# Altium schematic symbol library SamacSys.SchLib: 131 symbols (part 1 of 2)
Pins are listed as number, name and electrical type; pins without a type are passive.

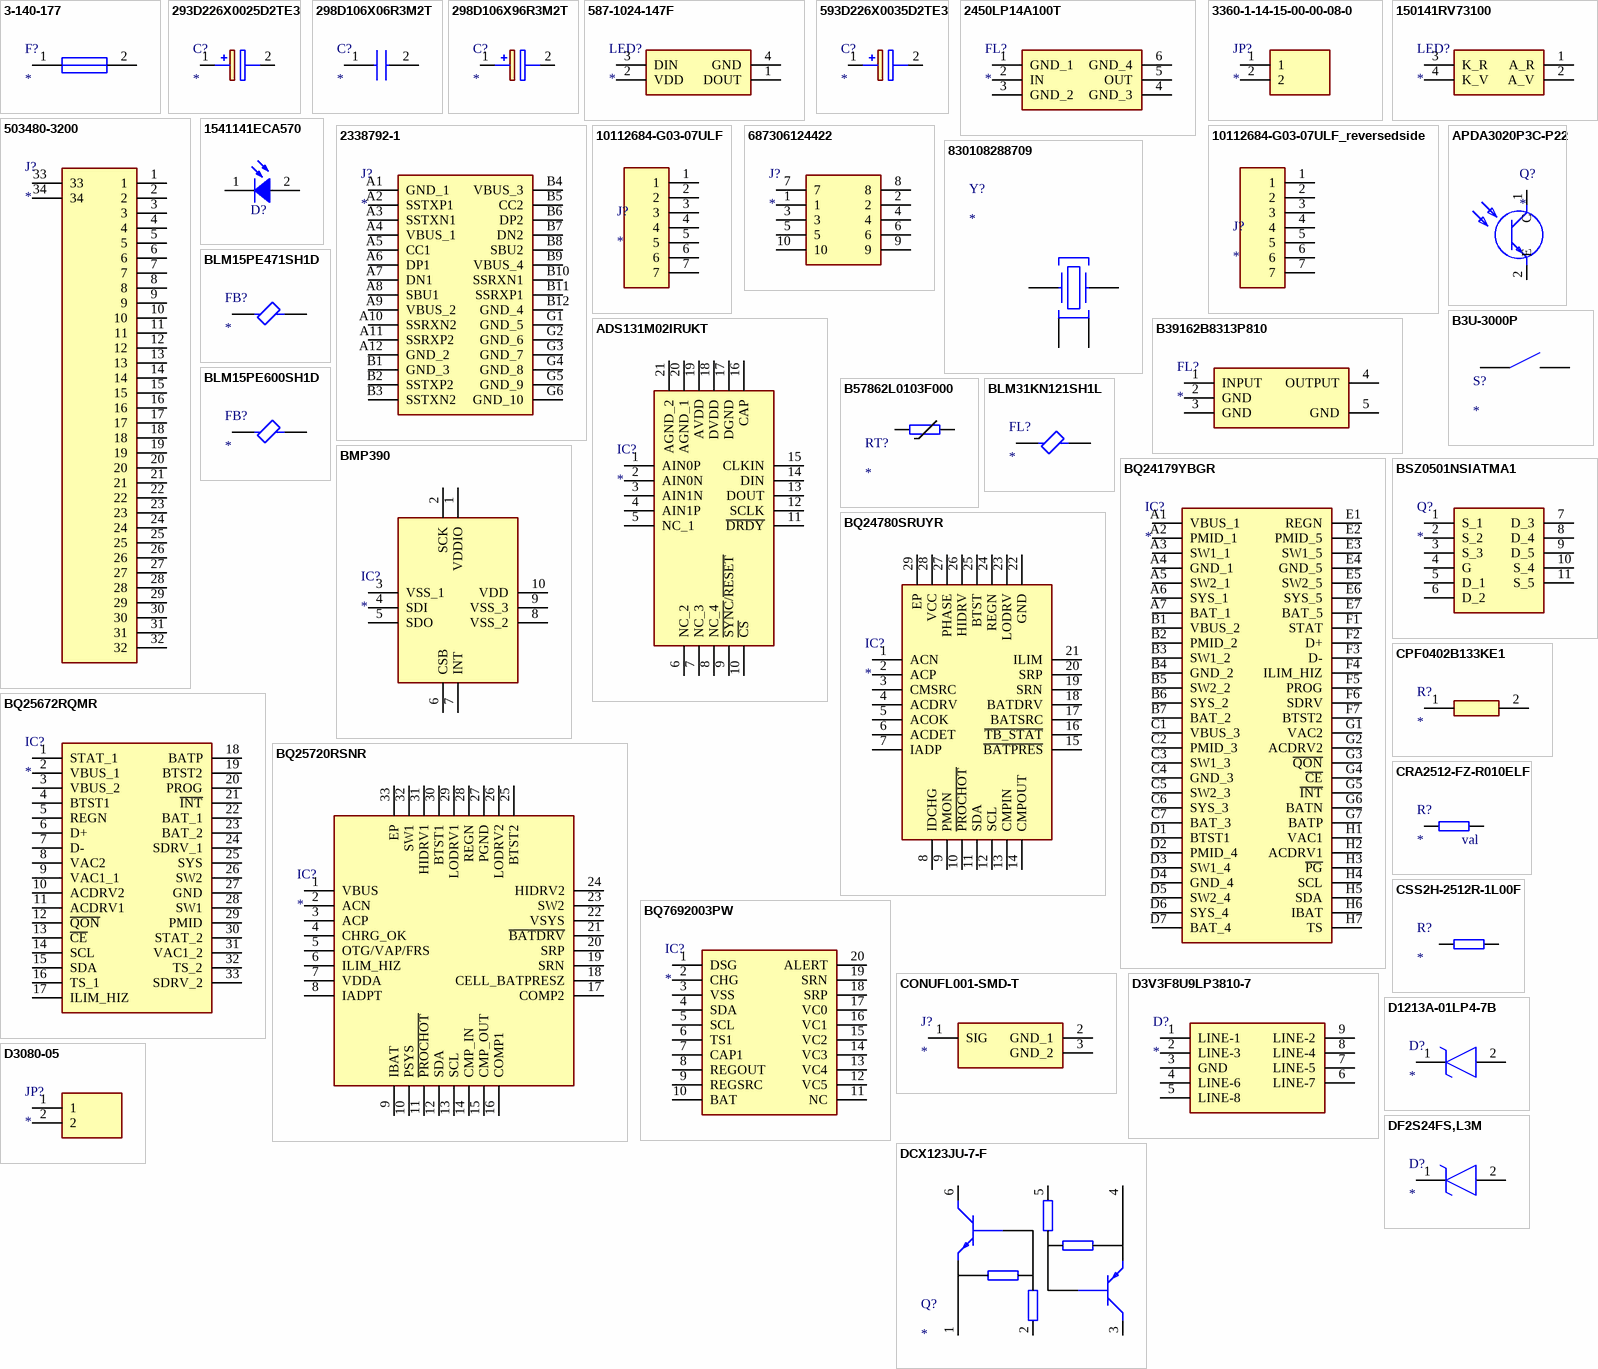
[diagram p0: symbols 3-140-177 to DF2S24FS,L3M]

## 3-140-177
designator F?
Fuse; Manufacturer_Name: SCHURTER; Manufacturer_Part_Number: 3-140-177; Datasheet Link: https://www.schurter.com/en/datasheet/typ_UHS.pdf; Height: 4.85mm; Mouser Part Number: 693-3-140-177; Mouser Price/Stock: https://www.mouser.co.uk/ProductDetail/Schurter/3-140-177?qs=3Rah4i%252BhyCHL3c0yS6dOkg%3D%3D; Arrow Part Number: 3-140-177; Arrow Price/Stock: https://www.arrow.com/en/products/3-140-177/schurter?region=europe
footprint 3140177
pins: 1, 2

## 293D226X0025D2TE3
designator C?
Capacitor Polarised; Manufacturer_Name: Vishay; Manufacturer_Part_Number: 293D226X0025D2TE3; Datasheet Link: http://www.vishay.com/docs/40002/293d.pdf; Height: 3.1mm; Mouser Part Number: 74-293D226X0025D2TE3; Mouser Price/Stock: https://www.mouser.co.uk/ProductDetail/Vishay-Sprague/293D226X0025D2TE3?qs=27QRfRkF2isTHSjSebANCw%3D%3D
footprint CAPPM7343X310N
pins: 1 +, 2 -

## 298D106X06R3M2T
designator C?
Capacitor; Manufacturer_Name: Vishay; Manufacturer_Part_Number: 298D106X06R3M2T; Datasheet Link: https://www.arrow.com/en/products/298d106x06r3m2t/vishay; Height: 0.6mm; Mouser Part Number: 71-298D106X06R3M2T; Mouser Price/Stock: https://www.mouser.co.uk/ProductDetail/Vishay/298D106X06R3M2T?qs=u8huD7HxK6amVvZnhRlfPA%3D%3D; Arrow Part Number: 298D106X06R3M2T; Arrow Price/Stock: https://www.arrow.com/en/products/298d106x06r3m2t/vishay
footprint CAPC1005X60N
pins: 1, 2

## 298D106X96R3M2T
designator C?
Capacitor Polarised; Manufacturer_Name: Vishay; Manufacturer_Part_Number: 298D106X96R3M2T; Datasheet Link: https://www.vishay.com/docs/40065/298d298w.pdf; Height: 0.9mm; Mouser Part Number: 74-298D106X96R3M2T; Mouser Price/Stock: https://www.mouser.co.uk/ProductDetail/Vishay/298D106X96R3M2T?qs=u8huD7HxK6YSei%252BhrggeyA%3D%3D; Arrow Part Number: 298D106X96R3M2T; Arrow Price/Stock: https://www.arrow.com/en/products/298d106x96r3m2t/vishay?region=nac
footprint CAPPC1608X90N
pins: 1 +, 2 -

## 587-1024-147F
designator LED?
LED; Manufacturer_Name: Dialight; Manufacturer_Part_Number: 587-1024-147F; Datasheet Link: https://s3-us-west-2.amazonaws.com/catsy.557/Dialight_datasheet_587-1024-147F_Addressable_RGB.pdf; Height: 0.9mm
footprint 5871024147F
pins: 1 DOUT, 2 VDD, 3 DIN, 4 GND

## 593D226X0035D2TE3
designator C?
Capacitor Polarised; Manufacturer_Name: Vishay; Manufacturer_Part_Number: 593D226X0035D2TE3; Datasheet Link: http://www.vishay.com/doc?40005; Height: 3.1mm; Arrow Part Number: 593D226X0035D2TE3; Arrow Price/Stock: https://www.arrow.com/en/products/593d226x0035d2te3/vishay
footprint CAPPM7343X310N
pins: 1 +, 2 -

## 2450LP14A100T
designator FL?
Filter; Manufacturer_Name: JOHANSON TECHNOLOGY; Manufacturer_Part_Number: 2450LP14A100T; Datasheet Link: https://componentsearchengine.com/Datasheets/1/2450LP14A100T.pdf; Height: 0.7mm; Arrow Part Number: 2450LP14A100T; Arrow Price/Stock: https://www.arrow.com/en/products/2450lp14a100t/johanson-dielectrics?region=nac
footprint 2450LP14A100T
pins: 1 GND_1, 2 IN, 3 GND_2, 4 GND_3, 5 OUT, 6 GND_4

## 3360-1-14-15-00-00-08-0
designator JP?
Link (Jumper); Manufacturer_Name: Mill-Max; Manufacturer_Part_Number: 3360-1-14-15-00-00-08-0; Datasheet Link: https://www.mill-max.com/products/printed-circuit-board-pcb-pin/jumper-pin/3360/3360-1-14-15-00-00-08-0?s_term=3360-1-14-15-00-00-08-0&s_type=Quick/Product/Part%20Number%20Search; Height: 0.635mm; Mouser Part Number: 575-3360114150000; Mouser Price/Stock: https://www.mouser.co.uk/ProductDetail/Mill-Max/3360-1-14-15-00-00-08-0?qs=1wcGhl1mtLN3gslvUvPk%252Bw%3D%3D; Arrow Part Number: 3360-1-14-15-00-00-08-0; Arrow Price/Stock: https://www.arrow.com/en/products/3360-1-14-15-00-00-08-0/mill-max
footprint 3360114150000080
pins: 1, 2

## 150141RV73100
designator LED?
LED (Multiple); Manufacturer_Name: Wurth Elektronik; Manufacturer_Part_Number: 150141RV73100; Datasheet Link: https://www.we-online.com/components/products/datasheet/150141RV73100.pdf; Height: 2.1mm; Mouser Part Number: 710-150141RV73100; Mouser Price/Stock: https://www.mouser.co.uk/ProductDetail/Wurth-Elektronik/150141RV73100?qs=LlUlMxKIyB1w9QlMugtMLA%3D%3D
footprint 150141RV73100
pins: 1 A_R, 2 A_V, 3 K_R, 4 K_V

## 503480-3200
designator J?
Connector; Manufacturer_Name: Molex; Manufacturer_Part_Number: 503480-3200; Datasheet Link: https://www.molex.com/pdm_docs/sd/5034803200_sd.pdf; Height: 1mm; Mouser Part Number: 538-503480-3200; Mouser Price/Stock: https://www.mouser.co.uk/ProductDetail/Molex/503480-3200?qs=6kT3pPPHxnXy4DNjAJz%252BBA%3D%3D
footprint 5034803200
pins: 1, 2, 3, 4, 5, 6, 7, 8, 9, 10, 11, 12, 13, 14, 15, 16, 17, 18, 19, 20, 21, 22, 23, 24, 25, 26, 27, 28, 29, 30, 31, 32, 33, 34

## 1541141ECA570
designator D?  (value not drawn)
WL-SDSB SMT Photodiode Sideview Black, size 1104, 700-1100nm, 2.5µA, 150°; Manufacturer: Wurth Elektronik; Case/Size Code: 1104; Dark Current Max: 10nA; Range of Spectral Bandwidth Min: 700nm; Range of Spectral Bandwidth Max: 1100nm; Wavelength of Peak Sensitivity: 940nm; ComponentLink1Description: Website Link; ComponentLink1URL: https://www.we-online.com/redexpert/article/1541141ECA570?ad; ComponentLink2Description: Datasheet Link; ComponentLink2URL: https://www.we-online.com/redexpert/spec/1541141ECA570?ad; Manufacturer Part Number: 1541141ECA570; Category: Photodiodes; Match Code: WL-SDSB; Mount: Surface Mount; Operating Temperature Max: 85°C; Operating Temperature Min: -40°C; Packaging: Tape and Reel; Length: 3mm; Width: 2.02mm; Height: 1mm; Photo Current: 2.5µA; Viewing Angle: 150°
footprint WL-SDSB_1104 (SMT Photodiode Sideview Black, body 3x2.02mm)
pins: 1 K, 2 A

## 2338792-1
designator J?
Connector; Manufacturer_Name: TE Connectivity; Manufacturer_Part_Number: 2338792-1; Datasheet Link: https://www.te.com/commerce/DocumentDelivery/DDEController?Action=srchrtrv&DocNm=2338792&DocType=Customer+Drawing&DocLang=English&DocFormat=pdf&PartCntxt=2338792-1.html; Height: 3.55mm; Mouser Part Number: 571-2338792-1; Mouser Price/Stock: https://www.mouser.co.uk/ProductDetail/TE-Connectivity/2338792-1?qs=P1JMDcb91o48A7J0Lklrxw%3D%3D; Arrow Part Number: 2338792-1; Arrow Price/Stock: https://www.arrow.com/en/products/2338792-1/te-connectivity?region=nac
footprint 23387921
pins: A1 GND_1, A2 SSTXP1, A3 SSTXN1, A4 VBUS_1, A5 CC1, A6 DP1, A7 DN1, A8 SBU1, A9 VBUS_2, A10 SSRXN2, A11 SSRXP2, A12 GND_2, B1 GND_3, B2 SSTXP2, B3 SSTXN2, B4 VBUS_3, B5 CC2, B6 DP2, B7 DN2, B8 SBU2, B9 VBUS_4, B10 SSRXN1, B11 SSRXP1, B12 GND_4, G1 GND_5, G2 GND_6, G3 GND_7, G4 GND_8, G5 GND_9, G6 GND_10

## 10112684-G03-07ULF
designator J?
footprint PCBComponent_1
pins: 1, 2, 3, 4, 5, 6, 7

## 10112684-G03-07ULF_reversedside
designator J?
footprint FC_conn
pins: 1, 2, 3, 4, 5, 6, 7

## 687306124422
designator J?
Connector; Manufacturer_Name: Wurth Elektronik; Manufacturer_Part_Number: 687306124422; Datasheet Link: https://katalog.we-online.de/em/datasheet/6873xx124422.pdf; Height: 4.3mm; Mouser Part Number: 710-687306124422; Mouser Price/Stock: https://www.mouser.co.uk/ProductDetail/Wurth-Elektronik/687306124422?qs=qR1qlUC5%2FYSdKVz1sUuf7Q%3D%3D
footprint 687306124422
pins: 1, 2, 3, 4, 5, 6, 7, 8, 9, 10

## 830108288709
designator Y?
Crystal or Oscillator; Manufacturer_Name: Wurth Elektronik; Manufacturer_Part_Number: 830108288709; Datasheet Link: https://www.we-online.com/catalog/datasheet/830108340709.pdf; Height: 0.5mm
footprint 830108288709
pins: 1 CRYSTAL_1, 2 GND_1, 3 CRYSTAL_2, 4 GND_2

## ADS131M02IRUKT
designator IC?
Integrated Circuit; Manufacturer_Name: Texas Instruments; Manufacturer_Part_Number: ADS131M02IRUKT; Description: 2-Channel Dual ADC Delta-Sigma 32ksps 24-bit Serial T/R; Datasheet Link: https://www.ti.com/lit/ds/symlink/ads131m02.pdf?ts=1615779027560; Height: 0.8mm; Mouser Part Number: 595-ADS131M02IRUKT; Mouser Price/Stock: https://www.mouser.co.uk/ProductDetail/Texas-Instruments/ADS131M02IRUKT?qs=DRkmTr78QAQxT9LmqFBUww%3D%3D; Arrow Part Number: ADS131M02IRUKT; Arrow Price/Stock: https://www.arrow.com/en/products/ads131m02irukt/texas-instruments?region=nac
footprint QFN40P300X300X80-21N-D
pins: 1 AIN0P, 2 AIN0N, 3 AIN1N, 4 AIN1P, 5 NC_1, 6 NC_2, 7 NC_3, 8 NC_4, 9 ~{SYNC}/~{RESET}, 10 ~{CS}, 11 ~{DRDY}, 12 SCLK, 13 DOUT, 14 DIN, 15 CLKIN, 16 CAP, 17 DGND, 18 DVDD, 19 AVDD, 20 AGND_1, 21 AGND_2

## APDA3020P3C-P22
designator Q?
Phototransistor; Manufacturer_Name: Kingbright; Manufacturer_Part_Number: APDA3020P3C-P22; Datasheet Link: https://www.kingbrightusa.com/images/catalog/SPEC/APDA3020P3C-P22.pdf; Height: 2.2mm
footprint APDA3020P3CP22
pins: 1 C, 2 E

## B3U-3000P
designator S?
Switch; Manufacturer_Name: Omron Electronics; Manufacturer_Part_Number: B3U-3000P; Datasheet Link: http://omronfs.omron.com/en_US/ecb/products/pdf/en-b3u.pdf; Mouser Part Number: 653-B3U-3000P; Mouser Price/Stock: https://www.mouser.co.uk/ProductDetail/Omron-Electronics/B3U-3000P?qs=AO7BQMcsEu4un9I7hS23xg%3D%3D; Arrow Part Number: B3U-3000P; Arrow Price/Stock: https://www.arrow.com/en/products/b3u-3000p/omron?region=nac
footprint B3U-1000P
pins: 1, 2

## B39162B8313P810
designator FL?
Filter; Manufacturer_Name: RF360; Manufacturer_Part_Number: B39162B8313P810; Datasheet Link: https://4donline.ihs.com/images/VipMasterIC/IC/TDKC/TDKC-S-A0001073526/TDKC-S-A0001073105-1.pdf?hkey=52A5661711E402568146F3353EA87419; Height: 0.4mm; Mouser Part Number: N/A; Mouser Price/Stock: https://www.mouser.co.uk/ProductDetail/RF360/B39162B8313P810?qs=%2Fd%252BFzHvH4c20Rngavm5AuA%3D%3D
footprint B39162B8313P810
pins: 1 INPUT, 2 GND, 3 GND, 4 OUTPUT, 5 GND

## B57862L0103F000
designator RT?
Thermistor; Manufacturer_Name: TDK; Manufacturer_Part_Number: B57862L0103F000; Datasheet Link: https://product.tdk.com/system/files/dam/doc/product/sensor/ntc/ntc_element/data_sheet/50/db/ntc/ntc_mini_sensors_l862.pdf; Height: 6.5mm; Mouser Part Number: 871-B57862L0103F000; Mouser Price/Stock: https://www.mouser.co.uk/ProductDetail/EPCOS-TDK/B57862L0103F000?qs=ZcfC38r4PovcwIqh7%252BPHpQ%3D%3D
footprint B57862L0102F000
pins: 1, 2

## BLM15PE471SH1D
designator FB?
Ferrite Bead; Manufacturer_Name: Murata Electronics; Manufacturer_Part_Number: BLM15PE471SH1D; Datasheet Link: https://www.murata.com/en-global/products/productdetail.aspx?cate=luNoiseSupprFilteChipFerriBead&partno=BLM15PE471SH1%23; Height: 0.55mm; Mouser Part Number: 81-BLM15PE471SH1D; Mouser Price/Stock: https://www.mouser.co.uk/ProductDetail/Murata-Electronics/BLM15PE471SH1D?qs=DRkmTr78QATAY5qAVx1hGA%3D%3D
footprint NFZ15SG152SN10B
pins: 1, 2

## BLM15PE600SH1D
designator FB?
Ferrite Bead; Manufacturer_Name: Murata Electronics; Manufacturer_Part_Number: BLM15PE600SH1D; Datasheet Link: https://www.murata.com/en-global/products/productdetail.aspx?cate=luNoiseSupprFilteChipFerriBead&partno=BLM15PE600SH1%23; Height: 0.55mm; Mouser Part Number: 81-BLM15PE600SH1D; Mouser Price/Stock: https://www.mouser.co.uk/ProductDetail/Murata-Electronics/BLM15PE600SH1D?qs=DRkmTr78QATf%2FmEselssqw%3D%3D
footprint NFZ15SG152SN10B
pins: 1, 2

## BLM31KN121SH1L
designator FL?
Filter; Manufacturer_Name: Murata Electronics; Manufacturer_Part_Number: BLM31KN121SH1L; Datasheet Link: https://www.murata.com/en-us/products/productdetail?partno=BLM31KN121SH1%23; Height: 1.8mm; Mouser Part Number: 81-BLM31KN121SH1L; Mouser Price/Stock: https://www.mouser.co.uk/ProductDetail/Murata-Electronics/BLM31KN121SH1L?qs=EU6FO9ffTweO7hwG4O0usQ%3D%3D; Arrow Part Number: BLM31KN121SH1L; Arrow Price/Stock: https://www.arrow.com/en/products/blm31kn121sh1l/murata-manufacturing?region=nac
footprint BLM31KN102BH1L
pins: 1, 2

## BMP390
designator IC?
Integrated Circuit; Manufacturer_Name: BOSCH; Manufacturer_Part_Number: BMP390; Datasheet Link: https://www.bosch-sensortec.com/media/boschsensortec/downloads/datasheets/bst-bmp390-ds002.pdf; Height: 0.8mm; Mouser Part Number: 262-BMP390; Mouser Price/Stock: https://www.mouser.co.uk/ProductDetail/Bosch-Sensortec/BMP390?qs=QNEnbhJQKvYQVfvRMgo2YA%3D%3D; Arrow Part Number: BMP390; Arrow Price/Stock: https://www.arrow.com/en/products/bmp390/bosch?region=nac
footprint BMP390
pins: 1 VDDIO, 2 SCK, 3 VSS_1, 4 SDI, 5 SDO, 6 CSB, 7 INT, 8 VSS_2, 9 VSS_3, 10 VDD

## BQ24179YBGR
designator IC?
Integrated Circuit; Manufacturer_Name: Texas Instruments; Manufacturer_Part_Number: BQ24179YBGR; Datasheet Link: https://www.ti.com/lit/ds/symlink/bq24179.pdf?ts=1620434088502&ref_url=https%253A%252F%252Fwww.ti.com%252Fproduct%252FBQ24179; Height: 0.5mm; Mouser Part Number: 595-BQ24179YBGR; Mouser Price/Stock: https://www.mouser.co.uk/ProductDetail/Texas-Instruments/BQ24179YBGR?qs=iLbezkQI%252Bsjk7FiJgAMAJg%3D%3D
footprint BGA56C40P7X8_286X328X50
pins: A1 VBUS_1, A2 PMID_1, A3 SW1_1, A4 GND_1, A5 SW2_1, A6 SYS_1, A7 BAT_1, B1 VBUS_2, B2 PMID_2, B3 SW1_2, B4 GND_2, B5 SW2_2, B6 SYS_2, B7 BAT_2, C1 VBUS_3, C2 PMID_3, C3 SW1_3, C4 GND_3, C5 SW2_3, C6 SYS_3, C7 BAT_3, D1 BTST1, D2 PMID_4, D3 SW1_4, D4 GND_4, D5 SW2_4, D6 SYS_4, D7 BAT_4, E1 REGN, E2 PMID_5, E3 SW1_5, E4 GND_5, E5 SW2_5, E6 SYS_5, E7 BAT_5, F1 STAT, F2 D+, F3 D-, F4 ILIM_HIZ, F5 PROG, F6 SDRV, F7 BTST2, G1 VAC2, G2 ACDRV2, G3 ~{QON}, G4 ~{CE}, G5 ~{INT}, G6 BATN, G7 BATP, H1 VAC1, H2 ACDRV1, H3 ~{PG}, H4 SCL, H5 SDA, H6 IBAT, H7 TS

## BQ24780SRUYR
designator IC?
Integrated Circuit; Manufacturer_Name: Texas Instruments; Manufacturer_Part_Number: BQ24780SRUYR; Datasheet Link: http://www.ti.com/lit/ds/symlink/bq24780s.pdf; Height: 0.8mm; Mouser Part Number: 595-BQ24780SRUYR; Mouser Price/Stock: https://www.mouser.co.uk/ProductDetail/Texas-Instruments/BQ24780SRUYR?qs=UfUFg%2FkmHHGvhuNvLnK4Wg%3D%3D; Arrow Part Number: BQ24780SRUYR; Arrow Price/Stock: https://www.arrow.com/en/products/bq24780sruyr/texas-instruments
footprint QFN40P400X400X80-29N-D
pins: 1 ACN, 2 ACP, 3 CMSRC, 4 ACDRV, 5 ACOK, 6 ACDET, 7 IADP, 8 IDCHG, 9 PMON, 10 ~{PROCHOT}, 11 SDA, 12 SCL, 13 CMPIN, 14 CMPOUT, 15 ~{BATPRES}, 16 ~{TB_STAT}, 17 BATSRC, 18 BATDRV, 19 SRN, 20 SRP, 21 ILIM, 22 GND, 23 LODRV, 24 REGN, 25 BTST, 26 HIDRV, 27 PHASE, 28 VCC, 29 EP

## BQ25672RQMR
designator IC?
Integrated Circuit; Manufacturer_Name: Texas Instruments; Manufacturer_Part_Number: BQ25672RQMR; Datasheet Link: https://www.ti.com/lit/ds/symlink/bq25672.pdf; Height: 1mm; Mouser Part Number: 595-BQ25672RQMR; Mouser Price/Stock: https://www.mouser.co.uk/ProductDetail/Texas-Instruments/BQ25672RQMR?qs=ljCeji4nMDntn8Xa8JfKdA%3D%3D; Arrow Part Number: BQ25672RQMR; Arrow Price/Stock: https://www.arrow.com/en/products/bq25672rqmr/texas-instruments?region=nac
footprint BQ25672RQMR
pins: 1 STAT_1, 2 VBUS_1, 3 VBUS_2, 4 BTST1, 5 REGN, 6 D+, 7 D-, 8 VAC2, 9 VAC1_1, 10 ACDRV2, 11 ACDRV1, 12 ~{QON}, 13 ~{CE}, 14 SCL, 15 SDA, 16 TS_1, 17 ILIM_HIZ, 18 BATP, 19 BTST2, 20 PROG, 21 ~{INT}, 22 BAT_1, 23 BAT_2, 24 SDRV_1, 25 SYS, 26 SW2, 27 GND, 28 SW1, 29 PMID, 30 STAT_2, 31 VAC1_2, 32 TS_2, 33 SDRV_2

## BQ25720RSNR
designator IC?
Integrated Circuit; Manufacturer_Name: Texas Instruments; Manufacturer_Part_Number: BQ25720RSNR; Datasheet Link: https://www.ti.com/lit/ds/symlink/bq25720.pdf?ts=1649085131820&ref_url=https%253A%252F%252Fwww.ti.com%252Fproduct%252FBQ25720; Height: 0.8mm; Mouser Part Number: 595-BQ25720RSNR; Mouser Price/Stock: https://www.mouser.co.uk/ProductDetail/Texas-Instruments/BQ25720RSNR?qs=ljCeji4nMDlwF8f%2Foae7aQ%3D%3D
footprint QFN40P400X400X80-33N-D
pins: 1 VBUS, 2 ACN, 3 ACP, 4 CHRG_OK, 5 OTG/VAP/FRS, 6 ILIM_HIZ, 7 VDDA, 8 IADPT, 9 IBAT, 10 PSYS, 11 ~{PROCHOT}, 12 SDA, 13 SCL, 14 CMP_IN, 15 CMP_OUT, 16 COMP1, 17 COMP2, 18 CELL_BATPRESZ, 19 SRN, 20 SRP, 21 ~{BATDRV}, 22 VSYS, 23 SW2, 24 HIDRV2, 25 BTST2, 26 LODRV2, 27 PGND, 28 REGN, 29 LODRV1, 30 BTST1, 31 HIDRV1, 32 SW1, 33 EP

## BQ7692003PW
designator IC?
Integrated Circuit; Manufacturer_Name: Texas Instruments; Manufacturer_Part_Number: BQ7692003PW; Datasheet Link: http://www.ti.com/lit/gpn/BQ76920; Height: 1.2mm; Mouser Part Number: 595-BQ7692003PW; Mouser Price/Stock: https://www.mouser.co.uk/ProductDetail/Texas-Instruments/BQ7692003PW?qs=%2Fd%252BFzHvH4c0Hx6X3GvdboA%3D%3D; Arrow Part Number: BQ7692003PW; Arrow Price/Stock: https://www.arrow.com/en/products/bq7692003pw/texas-instruments?utm_currency=USD&region=nac
footprint SOP65P640X120-20N
pins: 1 DSG, 2 CHG, 3 VSS, 4 SDA, 5 SCL, 6 TS1, 7 CAP1, 8 REGOUT, 9 REGSRC, 10 BAT, 11 NC, 12 VC5, 13 VC4, 14 VC3, 15 VC2, 16 VC1, 17 VC0, 18 SRP, 19 SRN, 20 ALERT

## BSZ0501NSIATMA1
designator Q?
MOSFET (N-Channel); Manufacturer_Name: Infineon; Manufacturer_Part_Number: BSZ0501NSIATMA1; Datasheet Link: https://www.infineon.com/dgdl/Infineon-BSZ0501NSI-DS-v02_00-EN.pdf?fileId=5546d4624cb7f111014cff6f9da822b8; Height: 1.1mm; Mouser Part Number: 726-BSZ0501NSIATMA1; Mouser Price/Stock: https://www.mouser.co.uk/ProductDetail/Infineon-Technologies/BSZ0501NSIATMA1?qs=0DP5yvOrqYmjIS%2FiZViMTg%3D%3D; Arrow Part Number: BSZ0501NSIATMA1; Arrow Price/Stock: https://www.arrow.com/en/products/bsz0501nsiatma1/infineon-technologies-ag
footprint BSZ0501NSIATMA1
pins: 1 S_1, 2 S_2, 3 S_3, 4 G, 5 D_1, 6 D_2, 7 D_3, 8 D_4, 9 D_5, 10 S_4, 11 S_5

## CONUFL001-SMD-T
designator J?
Connector; Manufacturer_Name: Linx Technologies; Manufacturer_Part_Number: CONUFL001-SMD-T; Datasheet Link: https://linxtechnologies.com/wp/product/mhf-rf-connectors/; Mouser Part Number: 712-CONUFL001-SMD-T; Mouser Price/Stock: https://www.mouser.co.uk/ProductDetail/Linx-Technologies/CONUFL001-SMD-T?qs=EU6FO9ffTwfRdkBeQTdJWQ%3D%3D
footprint CONUFL001-SMD
pins: 1 SIG, 2 GND_1, 3 GND_2

## CPF0402B133KE1
designator R?
Resistor; Manufacturer_Name: TE Connectivity; Manufacturer_Part_Number: CPF0402B133KE1; Datasheet Link: http://www.farnell.com/datasheets/1786775.pdf; Height: 0.35mm
footprint RESC1005X35N
pins: 1, 2

## CRA2512-FZ-R010ELF
designator R?  value val
Resistor; Manufacturer_Name: Bourns; Manufacturer_Part_Number: CRA2512-FZ-R010ELF; Datasheet Link: http://www.bourns.com/PDFs/CRA.pdf; Height: 0.9mm; Mouser Part Number: 652-CRA2512FZR010ELF; Mouser Price/Stock: https://www.mouser.co.uk/ProductDetail/Bourns/CRA2512-FZ-R010ELF?qs=WqWCsLCZBkoNPiv%2FXVnYvw%3D%3D; Arrow Part Number: CRA2512-FZ-R010ELF; Arrow Price/Stock: https://www.arrow.com/en/products/cra2512-fz-r010elf/bourns?region=europe
footprint RESC6434X90N
pins: 1, 2

## CSS2H-2512R-1L00F
designator R?
Resistor; Manufacturer_Name: Bourns; Manufacturer_Part_Number: CSS2H-2512R-1L00F; Datasheet Link: http://www.mouser.com/ds/2/54/ss2h-2512-935127.pdf; Height: 0.87mm; Mouser Part Number: 652-CSS2H2512R1L00F; Mouser Price/Stock: https://www.mouser.co.uk/ProductDetail/Bourns/CSS2H-2512R-1L00F?qs=Uem7cGQRk%252BpmYdIB5J3yJg%3D%3D; Arrow Part Number: CSS2H-2512R-1L00F; Arrow Price/Stock: https://www.arrow.com/en/products/css2h-2512r-1l00f/bourns?region=nac
footprint RESC6430X87N
pins: 1, 2

## D3V3F8U9LP3810-7
designator D?
TVS Diode (Uni-directional); Manufacturer_Name: Diodes Incorporated; Manufacturer_Part_Number: D3V3F8U9LP3810-7; Datasheet Link: https://www.diodes.com/datasheet/download/D3V3F8U9LP3810.pdf; Height: 0.55mm; Mouser Part Number: 621-D3V3F8U9LP3810-7; Mouser Price/Stock: https://www.mouser.co.uk/ProductDetail/Diodes-Incorporated/D3V3F8U9LP3810-7?qs=y6ZabgHbY%252BwmVTVbjzDMSw%3D%3D; Arrow Part Number: D3V3F8U9LP3810-7; Arrow Price/Stock: https://www.arrow.com/en/products/d3v3f8u9lp3810-7/diodes-incorporated
footprint D3V3F8U9LP38107
pins: 1 LINE-1, 2 LINE-3, 3 GND, 4 LINE-6, 5 LINE-8, 6 LINE-7, 7 LINE-5, 8 LINE-4, 9 LINE-2

## D1213A-01LP4-7B
designator D?
TVS Diode (Uni-directional); Manufacturer_Name: Diodes Incorporated; Manufacturer_Part_Number: D1213A-01LP4-7B; Datasheet Link: https://www.diodes.com/assets/Datasheets/D1213A-01LP4.pdf; Height: 0.4mm; Mouser Part Number: 621-D1213A-01LP4-7B; Mouser Price/Stock: https://www.mouser.co.uk/ProductDetail/Diodes-Incorporated/D1213A-01LP4-7B?qs=gfe7vQ8txpVKfG5NOSOvfA%3D%3D; Arrow Part Number: D1213A-01LP4-7B; Arrow Price/Stock: https://www.arrow.com/en/products/d1213a-01lp4-7b/diodes-incorporated?region=europe
footprint D1213A01LP47B
pins: 1 K, 2 A

## D3080-05
designator JP?
Link (Jumper); Manufacturer_Name: Harwin; Manufacturer_Part_Number: D3080-05; Datasheet Link: https://www.digikey.ph/en/products/detail/harwin-inc/D3080-05/3727839?msockid=39f1ec84d77b6f4428b7f904d6676eed; Height: 9mm; Mouser Part Number: 855-D3080-05; Mouser Price/Stock: https://www.mouser.co.uk/ProductDetail/Harwin/D3080-05?qs=Jph8NoUxIfVlP7WRRdmgOg%3D%3D
footprint D308005
pins: 1, 2

## DCX123JU-7-F
designator Q?
Transistor BJT PNP; Manufacturer_Name: Diodes Incorporated; Manufacturer_Part_Number: DCX123JU-7-F; Datasheet Link: https://www.diodes.com//assets/Datasheets/DCX_XXXX_U.pdf; Height: 1.1mm; Mouser Part Number: 621-DCX123JU-F; Mouser Price/Stock: https://www.mouser.co.uk/ProductDetail/Diodes-Incorporated/DCX123JU-7-F?qs=JodRp68BO%2F64PTlIzh5LEQ%3D%3D; Arrow Part Number: DCX123JU-7-F; Arrow Price/Stock: https://www.arrow.com/en/products/dcx123ju-7-f/diodes-incorporated
footprint SOT65P210X110-6N
pins: 1 E, 2 B, 3 C, 4 E, 5 B, 6 C

## DF2S24FS,L3M
designator D?
TVS Diode (Uni-directional); Manufacturer_Name: Toshiba; Manufacturer_Part_Number: DF2S24FS,L3M; Datasheet Link: https://www.mouser.com/datasheet/2/408/DF2S24FS_datasheet_en_20140718-708374.pdf; Height: 0.45mm; Mouser Part Number: 757-DF2S24FSL3M; Mouser Price/Stock: https://www.mouser.co.uk/ProductDetail/Toshiba/DF2S24FSL3M?qs=lhkzy8lC%252BSvG2umxl0FuEw%3D%3D; Arrow Part Number: DF2S24FS,L3M; Arrow Price/Stock: https://www.arrow.com/en/products/df2s24fsl3m/toshiba?region=nac
footprint SODFL1006X45N
pins: 1 K, 2 A

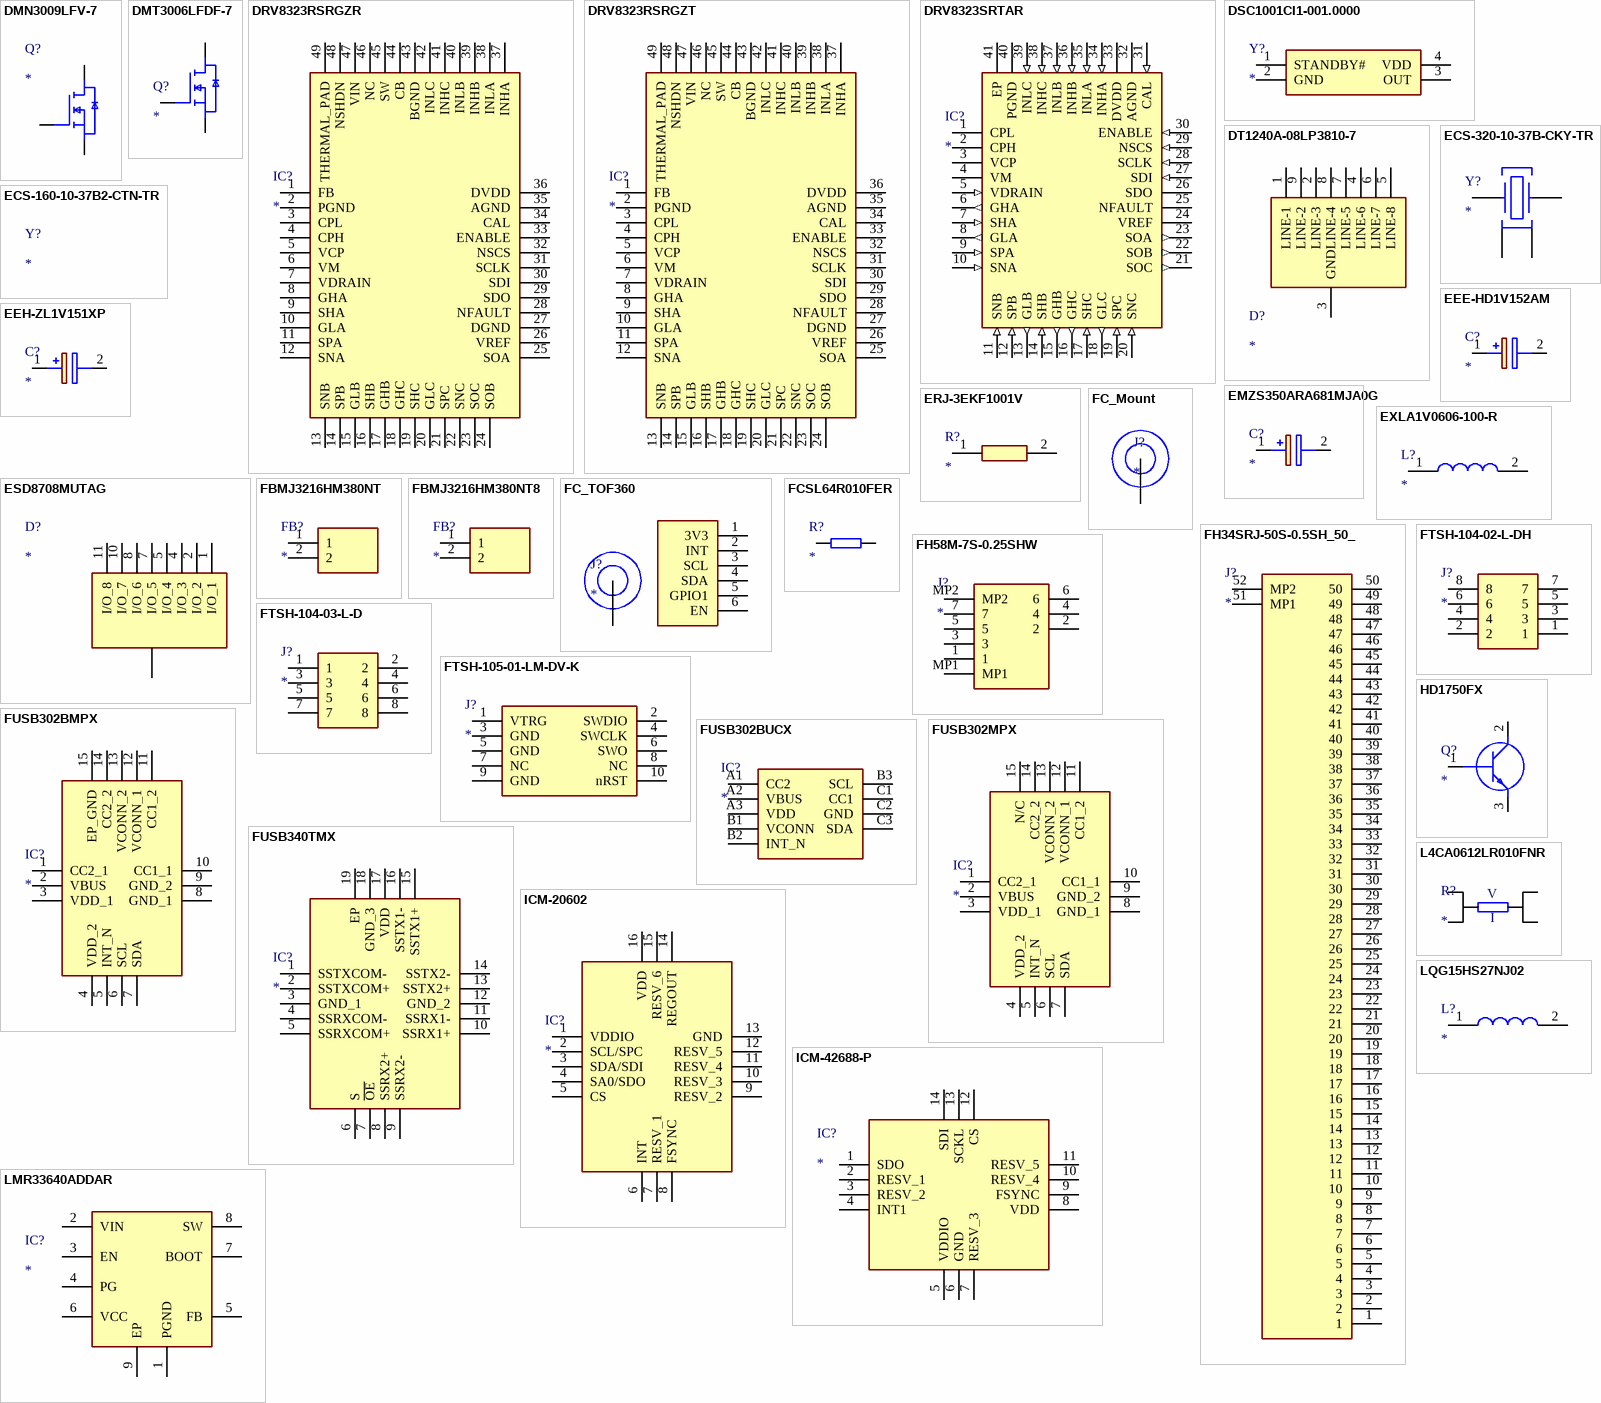
[diagram p1: symbols DMN3009LFV-7 to LQG15HS27NJ02]

## DMN3009LFV-7
designator Q?
MOSFET (N-Channel); Manufacturer_Name: Diodes Incorporated; Manufacturer_Part_Number: DMN3009LFV-7; Datasheet Link: https://www.diodes.com//assets/Datasheets/DMN3009LFV.pdf; Height: 0.8mm; Mouser Part Number: 621-DMN3009LFV-7; Mouser Price/Stock: https://www.mouser.co.uk/ProductDetail/Diodes-Incorporated/DMN3009LFV-7?qs=HXFqYaX1Q2znfWMsJdWO%2FA%3D%3D
footprint DMTH8008LFGQ7
pins: 1 S_1, 2 S_2, 3 S_3, 4 G, 5 D_1, 6 D_2, 7 D_3, 8 D_4, 9 D_5

## DMT3006LFDF-7
designator Q?
MOSFET (N-Channel); Manufacturer_Name: Diodes Incorporated; Manufacturer_Part_Number: DMT3006LFDF-7; Datasheet Link: https://www.arrow.com/en/products/dmt3006lfdf-7/diodes-incorporated; Height: 0.63mm; Mouser Part Number: 621-DMT3006LFDF-7; Mouser Price/Stock: https://www.mouser.co.uk/ProductDetail/Diodes-Incorporated/DMT3006LFDF-7?qs=4EhzHfbM1GhGS5nn3gf3wg%3D%3D; Arrow Part Number: DMT3006LFDF-7; Arrow Price/Stock: https://www.arrow.com/en/products/dmt3006lfdf-7/diodes-incorporated
footprint DMT3006LFDF7
pins: 1 D_1, 2 D_2, 3 G, 4 S_1, 5 D_3, 6 D_4, 7 D_5, 8 S_2

## DRV8323RSRGZR
designator IC?
Integrated Circuit; Manufacturer_Name: Texas Instruments; Manufacturer_Part_Number: DRV8323RSRGZR; Datasheet Link: http://www.ti.com/lit/gpn/drv8323r; Height: 1mm; Mouser Part Number: 595-DRV8323RSRGZR; Mouser Price/Stock: https://www.mouser.co.uk/ProductDetail/Texas-Instruments/DRV8323RSRGZR?qs=Mv7BduZupUiaPRwy%2F9hIqw%3D%3D; Arrow Part Number: DRV8323RSRGZR; Arrow Price/Stock: https://www.arrow.com/en/products/drv8323rsrgzr/texas-instruments?utm_currency=USD&region=nac
footprint QFN50P700X700X100-49N-D
pins: 1 FB, 2 PGND, 3 CPL, 4 CPH, 5 VCP, 6 VM, 7 VDRAIN, 8 GHA, 9 SHA, 10 GLA, 11 SPA, 12 SNA, 13 SNB, 14 SPB, 15 GLB, 16 SHB, 17 GHB, 18 GHC, 19 SHC, 20 GLC, 21 SPC, 22 SNC, 23 SOC, 24 SOB, 25 SOA, 26 VREF, 27 DGND, 28 NFAULT, 29 SDO, 30 SDI, 31 SCLK, 32 NSCS, 33 ENABLE, 34 CAL, 35 AGND, 36 DVDD, 37 INHA, 38 INLA, 39 INHB, 40 INLB, 41 INHC, 42 INLC, 43 BGND, 44 CB, 45 SW, 46 NC, 47 VIN, 48 NSHDN, 49 THERMAL_PAD

## DRV8323RSRGZT
designator IC?
Integrated Circuit; Manufacturer_Name: Texas Instruments; Manufacturer_Part_Number: DRV8323RSRGZT; Datasheet Link: http://www.ti.com/lit/ds/symlink/drv8323.pdf; Height: 1mm; Mouser Part Number: 595-DRV8323RSRGZT; Mouser Price/Stock: https://www.mouser.co.uk/ProductDetail/Texas-Instruments/DRV8323RSRGZT?qs=Mv7BduZupUh8uglXmMY%2FjA%3D%3D; Arrow Part Number: DRV8323RSRGZT; Arrow Price/Stock: https://www.arrow.com/en/products/drv8323rsrgzt/texas-instruments?utm_currency=USD&region=nac
footprint QFN50P700X700X100-49N-D
pins: 1 FB, 2 PGND, 3 CPL, 4 CPH, 5 VCP, 6 VM, 7 VDRAIN, 8 GHA, 9 SHA, 10 GLA, 11 SPA, 12 SNA, 13 SNB, 14 SPB, 15 GLB, 16 SHB, 17 GHB, 18 GHC, 19 SHC, 20 GLC, 21 SPC, 22 SNC, 23 SOC, 24 SOB, 25 SOA, 26 VREF, 27 DGND, 28 NFAULT, 29 SDO, 30 SDI, 31 SCLK, 32 NSCS, 33 ENABLE, 34 CAL, 35 AGND, 36 DVDD, 37 INHA, 38 INLA, 39 INHB, 40 INLB, 41 INHC, 42 INLC, 43 BGND, 44 CB, 45 SW, 46 NC, 47 VIN, 48 NSHDN, 49 THERMAL_PAD

## DRV8323SRTAR
designator IC?
Integrated Circuit; Manufacturer_Name: Texas Instruments; Manufacturer_Part_Number: DRV8323SRTAR; Datasheet Link: http://www.ti.com/lit/ds/symlink/drv8323.pdf; Height: 0.8mm; Mouser Part Number: 595-DRV8323SRTAR; Mouser Price/Stock: https://www.mouser.co.uk/ProductDetail/Texas-Instruments/DRV8323SRTAR?qs=u4fy%2FsgLU9P2gpPTX6mffg%3D%3D; Arrow Part Number: DRV8323SRTAR; Arrow Price/Stock: https://www.arrow.com/en/products/drv8323srtar/texas-instruments?utm_currency=USD&region=nac
footprint QFN50P600X600X80-41N-D
pins: 1 CPL (power), 2 CPH (power), 3 VCP (power), 4 VM (power), 5 VDRAIN (in), 6 GHA (out), 7 SHA (in), 8 GLA (out), 9 SPA (in), 10 SNA (in), 11 SNB (in), 12 SPB (in), 13 GLB (out), 14 SHB (in), 15 GHB (out), 16 GHC (out), 17 SHC (in), 18 GLC (out), 19 SPC (in), 20 SNC (in), 21 SOC (out), 22 SOB (out), 23 SOA (out), 24 VREF (power), 25 NFAULT, 26 SDO, 27 SDI (in), 28 SCLK (in), 29 NSCS (in), 30 ENABLE (in), 31 CAL (in), 32 AGND (power), 33 DVDD (power), 34 INHA (in), 35 INLA (in), 36 INHB (in), 37 INLB (in), 38 INHC (in), 39 INLC (in), 40 PGND (power), 41 EP (power)

## DSC1001CI1-001.0000
designator Y?
Crystal or Oscillator; Manufacturer_Name: Microchip; Manufacturer_Part_Number: DSC1001CI1-001.0000; Datasheet Link: https://ww1.microchip.com/downloads/aemDocuments/documents/OTH/ProductDocuments/DataSheets/20005529B.pdf; Height: 0.9mm; Mouser Part Number: 998-1001CI1-001.0000; Mouser Price/Stock: https://www.mouser.co.uk/ProductDetail/Microchip-Technology/DSC1001CI1-001.0000?qs=moDRE%2FDosU0f1JofGoWHJw%3D%3D
footprint DSC1001CI10010000
pins: 1 STANDBY#, 2 GND, 3 OUT, 4 VDD

## DT1240A-08LP3810-7
designator D?
TVS Diode (Uni-directional); Manufacturer_Name: Diodes Incorporated; Manufacturer_Part_Number: DT1240A-08LP3810-7; Datasheet Link: https://www.diodes.com//assets/Datasheets/DT1240A-08LP3810.pdf; Height: 0.55mm; Mouser Part Number: 621-DT1240A08LP38107; Mouser Price/Stock: https://www.mouser.co.uk/ProductDetail/Diodes-Incorporated/DT1240A-08LP3810-7?qs=W0yvOO0ixfFwCalJyqXN4A%3D%3D; Arrow Part Number: DT1240A-08LP3810-7; Arrow Price/Stock: null?region=nac
footprint DT1240A08LP38107
pins: 1 LINE-1, 2 LINE-3, 3 GND, 4 LINE-6, 5 LINE-8, 6 LINE-7, 7 LINE-5, 8 LINE-4, 9 LINE-2

## ECS-160-10-37B2-CTN-TR
designator Y?
Crystal or Oscillator; Manufacturer_Name: ECS; Manufacturer_Part_Number: ECS-160-10-37B2-CTN-TR; Datasheet Link: https://www.google.com/url?sa=t&rct=j&q=&esrc=s&source=web&cd=&ved=2ahUKEwj71b27vaP0AhWrxYUKHdLgDKkQFnoECBAQAQ&url=https%3A%2F%2Fecsxtal.com%2Fstore%2Fpdf%2FECX-1637B2.pdf&usg=AOvVaw1DUs_BlJLLPd-f5YDoSg8f; Height: 0.5mm; Mouser Part Number: 520-160-10-37B2CTNTR; Mouser Price/Stock: https://www.mouser.co.uk/ProductDetail/ECS/ECS-160-10-37B2-CTN-TR?qs=QNEnbhJQKvYELA%252BmNCGPQg%3D%3D; Arrow Part Number: ECS-160-10-37B2-CTN-TR; Arrow Price/Stock: https://www.arrow.com/en/products/ecs-160-10-37b2-ctn-tr/ecs-international?utm_currency=USD&region=nac
footprint ECS1601037B2CTNTR

## ECS-320-10-37B-CKY-TR
designator Y?
Crystal or Oscillator; Manufacturer_Name: ECS; Manufacturer_Part_Number: ECS-320-10-37B-CKY-TR; Datasheet Link: https://ecsxtal.com/store/pdf/ECX-1637B.pdf; Height: 0.5mm; Mouser Part Number: 520-320-10-37B-CKYT; Mouser Price/Stock: https://www.mouser.co.uk/ProductDetail/ECS/ECS-320-10-37B-CKY-TR?qs=l7cgNqFNU1gltxVt%2FwcX%252Bw%3D%3D; Arrow Part Number: ECS-320-10-37B-CKY-TR; Arrow Price/Stock: https://www.arrow.com/en/products/ecs-320-10-37b-cky-tr/ecs-international?region=nac
footprint ECS3201037BCKYTR
pins: 1 CRYSTAL_1, 2 GND_1, 3 CRYSTAL_2, 4 GND_2

## EEE-HD1V152AM
designator C?
Capacitor Polarised; Manufacturer_Name: Panasonic; Manufacturer_Part_Number: EEE-HD1V152AM; Datasheet Link: http://industrial.panasonic.com/cdbs/www-data/pdf/RDE0000/ABA0000C1166.pdf; Height: 17mm; Mouser Part Number: 667-EEE-HD1V152AM; Mouser Price/Stock: https://www.mouser.co.uk/ProductDetail/Panasonic/EEE-HD1V152AM?qs=w%2Fv1CP2dgqra07u8DHsBPg%3D%3D
footprint CAPAE1700X1700N
pins: 1 +, 2 -

## EEH-ZL1V151XP
designator C?
Capacitor Polarised; Manufacturer_Name: Panasonic; Manufacturer_Part_Number: EEH-ZL1V151XP; Datasheet Link: https://industrial.panasonic.com/cdbs/www-data/pdf/RDD0000/ast-ind-303928.pdf
footprint EEEHP1H4R7P
pins: 1 +, 2 -

## EMZS350ARA681MJA0G
designator C?
Capacitor Polarised; Manufacturer_Name: Chemi-Con; Manufacturer_Part_Number: EMZS350ARA681MJA0G; Datasheet Link: https://www.chemi-con.co.jp/en/products/detail-condenser.php?part_number=EMZS350ARA681MJA0G; Height: 10.5mm; Mouser Part Number: 661-EMZS350ARA681MJA; Mouser Price/Stock: https://www.mouser.co.uk/ProductDetail/Chemi-Con/EMZS350ARA681MJA0G?qs=y6ZabgHbY%252ByMUGm5330iKw%3D%3D; Arrow Part Number: EMZS350ARA681MJA0G; Arrow Price/Stock: https://www.arrow.com/en/products/emzs350ara681mja0g/united-chemi-con?region=nac
footprint CAPAE1030X1050N
pins: 1 +, 2 -

## ERJ-3EKF1001V
designator R?
Resistor; Manufacturer_Name: Panasonic; Manufacturer_Part_Number: ERJ-3EKF1001V; Datasheet Link: http://industrial.panasonic.com/cdbs/www-data/pdf/RDA0000/AOA0000C86.pdf; Height: 0.55mm; Mouser Part Number: 667-ERJ-3EKF1001V; Mouser Price/Stock: https://www.mouser.co.uk/ProductDetail/Panasonic/ERJ-3EKF1001V?qs=H7k1u0Mp9JTM8yQxOuvoDg%3D%3D; Arrow Part Number: ERJ-3EKF1001V; Arrow Price/Stock: https://www.arrow.com/en/products/erj-3ekf1001v/panasonic?region=nac
footprint RESC1608X55N
pins: 1, 2

## ESD8708MUTAG
designator D?
TVS Diode (Uni-directional); Manufacturer_Name: onsemi; Manufacturer_Part_Number: ESD8708MUTAG; Datasheet Link: https://www.onsemi.com/pub/Collateral/ESD8708-D.PDF; Height: 0.55mm; Mouser Part Number: 863-ESD8708MUTAG; Mouser Price/Stock: https://www.mouser.co.uk/ProductDetail/onsemi/ESD8708MUTAG?qs=%252B6g0mu59x7J1h3T%252BrbDk%252Bw%3D%3D
footprint ESD8708MUTAG
pins: 1 I/O_1, 2 I/O_2, 3 GND_1, 4 I/O_3, 5 I/O_4, 6 GND_2, 7 I/O_5, 8 I/O_6, 9 GND_3, 10 I/O_7, 11 I/O_8, 12 GND_4, 13 GND_5, 14 GND_6, 15 GND_7, 16 GND_8, 17 GND_9

## EXLA1V0606-100-R
designator L?
Inductor; Manufacturer_Name: Eaton; Manufacturer_Part_Number: EXLA1V0606-100-R; Datasheet Link: https://www.eaton.com/content/dam/eaton/products/electronic-components/resources/data-sheet/eaton-exla1v06-automotive-high-current-molded-inductor-data-sheet-elx1221-en.pdf; Height: 6mm; Mouser Part Number: 704-EXLA1V0606-100-R; Mouser Price/Stock: https://www.mouser.co.uk/ProductDetail/Bussmann-Eaton/EXLA1V0606-100-R?qs=T%252BzbugeAwjhRVU8Dylvhsg%3D%3D
footprint EXLA1V0606100R
pins: 1, 2

## FBMJ3216HM380NT
designator FB?
Ferrite Bead; Manufacturer_Name: TAIYO YUDEN; Manufacturer_Part_Number: FBMJ3216HM380NT; Datasheet Link: https://componentsearchengine.com/Datasheets/1/FBMJ3216HM380NT.pdf; Height: 1.3mm; Mouser Part Number: 963-FBMJ3216HM380NT; Mouser Price/Stock: https://www.mouser.co.uk/ProductDetail/Taiyo-Yuden/FBMJ3216HM380NT?qs=I6KAKw0tg2xFU27kRaatJg%3D%3D; Arrow Part Number: FBMJ3216HM380NT; Arrow Price/Stock: https://www.arrow.com/en/products/fbmj3216hm380nt/taiyo-yuden?region=nac
footprint BEADC3216X130N
pins: 1, 2

## FBMJ3216HM380NT8
designator FB?
Ferrite Bead; Manufacturer_Name: TAIYO YUDEN; Manufacturer_Part_Number: FBMJ3216HM380NT8; Datasheet Link: https://www.mouser.in/ProductDetail/Taiyo-Yuden/FBMJ3216HM380NT8?qs=DPoM0jnrROVY7JIeMm%252Buzw%3D%3D; Height: 1.3mm; Mouser Part Number: 963-FBMJ3216HM380NT8; Mouser Price/Stock: https://www.mouser.co.uk/ProductDetail/Taiyo-Yuden/FBMJ3216HM380NT8?qs=DPoM0jnrROVY7JIeMm%252Buzw%3D%3D
footprint BEADC3216X130N
pins: 1, 2

## FC_Mount
designator J?
footprint FC_Mount
pins: 1

## FC_TOF360
designator J?
footprint TOF_Mount
pins: 1 3V3, 2 INT, 3 SCL, 4 SDA, 5 GPIO1, 6 EN, 7

## FCSL64R010FER
designator R?
Resistor; Value: val
footprint RESC3163X50N
pins: 1, 2

## FH34SRJ-50S-0.5SH_50_
designator J?
Connector; Manufacturer_Name: Hirose; Manufacturer_Part_Number: FH34SRJ-50S-0.5SH(50); Datasheet Link: https://www.hirose.com/en/product/document?clcode=CL0580-1266-2-50&productname=FH34SRJ-50S-0.5SH(50)&series=FH34SRJ&documenttype=2DDrawing&lang=en&documentid=0001483059; Height: 1.75mm; Mouser Part Number: 798-FH34SRJ50S05SH50; Mouser Price/Stock: https://www.mouser.co.uk/ProductDetail/Hirose-Connector/FH34SRJ-50S-0.5SH50?qs=vcbW%252B4%252BSTIrLLD%2F8H%2F%252B%2Fhg%3D%3D
footprint FH34SRJ50S05SH50
pins: 1, 2, 3, 4, 5, 6, 7, 8, 9, 10, 11, 12, 13, 14, 15, 16, 17, 18, 19, 20, 21, 22, 23, 24, 25, 26, 27, 28, 29, 30, 31, 32, 33, 34, 35, 36, 37, 38, 39, 40, 41, 42, 43, 44, 45, 46, 47, 48, 49, 50, 51 MP1, 52 MP2

## FH58M-7S-0.25SHW
designator J?
Connector; Manufacturer_Name: Hirose; Manufacturer_Part_Number: FH58M-7S-0.25SHW; Datasheet Link: https://datasheet.datasheetarchive.com/originals/distributors/DKDS-40/45453.pdf; Height: 1.54mm; Mouser Part Number: 798-FH58M-7S-0.25SHW; Mouser Price/Stock: https://www.mouser.co.uk/ProductDetail/Hirose-Connector/FH58M-7S-0.25SHW?qs=W0yvOO0ixfFlGJvrx%2FPuVw%3D%3D
footprint FH58M7S025SHW
pins: 1, 2, 3, 4, 5, 6, 7, MP1, MP2

## FTSH-104-02-L-DH
designator J?
Connector; Manufacturer_Name: SAMTEC; Manufacturer_Part_Number: FTSH-104-02-L-DH; Datasheet Link: http://suddendocs.samtec.com/prints/ftsh-1xx-xx-xxx-d-xxx-xx-mkt.pdf; Mouser Part Number: 200-FTSH10402LDH; Mouser Price/Stock: https://www.mouser.co.uk/ProductDetail/Samtec/FTSH-104-02-L-DH?qs=0lQeLiL1qyYdFUFeamC%252B%2FQ%3D%3D; Arrow Part Number: FTSH-104-02-L-DH; Arrow Price/Stock: https://www.arrow.com/en/products/ftsh-104-02-l-dh/samtec?region=nac
footprint FTSH-104-XX-YYY-DH
pins: 1, 2, 3, 4, 5, 6, 7, 8

## FTSH-104-03-L-D
designator J?
Connector; Manufacturer_Name: SAMTEC; Manufacturer_Part_Number: FTSH-104-03-L-D; Datasheet Link: http://suddendocs.samtec.com/prints/ftsh-1xx-xx-xxx-d-xxx-xx-mkt.pdf; Mouser Part Number: 200-FTSH10403LD; Mouser Price/Stock: https://www.mouser.co.uk/ProductDetail/Samtec/FTSH-104-03-L-D?qs=0lQeLiL1qyZeY92VC2jARg%3D%3D
footprint FTSH-104-XX-YYY-D
pins: 1, 2, 3, 4, 5, 6, 7, 8

## FTSH-105-01-LM-DV-K
designator J?
Connector; Manufacturer_Name: SAMTEC; Manufacturer_Part_Number: FTSH-105-01-LM-DV-K; Datasheet Link: http://suddendocs.samtec.com/prints/ftsh-1xx-xx-xxx-dv-xxx-xxx-mkt.pdf; Mouser Part Number: 200-FTSH10501LMDVK; Mouser Price/Stock: https://www.mouser.co.uk/ProductDetail/Samtec/FTSH-105-01-LM-DV-K?qs=Cqqh%252BS766wkgt1n7b4Yb6g%3D%3D; Arrow Part Number: FTSH-105-01-LM-DV-K; Arrow Price/Stock: https://www.arrow.com/en/products/ftsh-105-01-lm-dv-k/samtec?utm_currency=USD&region=nac
footprint FTSH-105-XX-YYY-DV-K
pins: 1 VTRG, 2 SWDIO, 3 GND, 4 SWCLK, 5 GND, 6 SWO, 7 NC, 8 NC, 9 GND, 10 nRST

## FUSB302BMPX
designator IC?
Integrated Circuit; Manufacturer_Name: onsemi; Manufacturer_Part_Number: FUSB302BMPX; Datasheet Link: https://www.onsemi.com/pub/Collateral/FUSB302B-D.PDF; Height: 0.8mm; Mouser Part Number: 512-FUSB302BMPX; Mouser Price/Stock: https://www.mouser.co.uk/ProductDetail/onsemi-Fairchild/FUSB302BMPX?qs=8ziscO3x5y1SHqdwooDK6g%3D%3D; Arrow Part Number: FUSB302BMPX; Arrow Price/Stock: https://www.arrow.com/en/products/fusb302bmpx/on-semiconductor?utm_currency=USD&region=nac
footprint QFN50P250X250X80-15N
pins: 1 CC2_1, 2 VBUS, 3 VDD_1, 4 VDD_2, 5 INT_N, 6 SCL, 7 SDA, 8 GND_1, 9 GND_2, 10 CC1_1, 11 CC1_2, 12 VCONN_1, 13 VCONN_2, 14 CC2_2, 15 EP_GND

## FUSB302BUCX
designator IC?
Integrated Circuit; Manufacturer_Name: onsemi; Manufacturer_Part_Number: FUSB302BUCX; Datasheet Link: http://www.onsemi.com/pub/Collateral/FUSB302B-D.PDF; Height: 0.526mm; Mouser Part Number: 512-FUSB302BUCX; Mouser Price/Stock: https://www.mouser.co.uk/ProductDetail/onsemi-Fairchild/FUSB302BUCX?qs=Qyx3PVvfm65SQOjfRsFQ7Q%3D%3D; Arrow Part Number: FUSB302BUCX; Arrow Price/Stock: https://www.arrow.com/en/products/fusb302bucx/on-semiconductor?region=nac
footprint BGA9C40P3X3_122X126X53
pins: A1 CC2, A2 VBUS, A3 VDD, B1 VCONN, B2 INT_N, B3 SCL, C1 CC1, C2 GND, C3 SDA

## FUSB302MPX
designator IC?
Integrated Circuit; Manufacturer_Name: onsemi; Manufacturer_Part_Number: FUSB302MPX; Datasheet Link: https://datasheet.datasheetarchive.com/originals/distributors/DKDS-30/584874.pdf; Height: 0.8mm; Mouser Part Number: 512-FUSB302MPX; Mouser Price/Stock: https://www.mouser.co.uk/ProductDetail/onsemi-Fairchild/FUSB302MPX?qs=4SZXFaw57sm8ZmQ7q6qVtQ%3D%3D; Arrow Part Number: FUSB302MPX; Arrow Price/Stock: https://www.arrow.com/en/products/fusb302mpx/on-semiconductor?region=nac
footprint QFN50P250X250X80-15N
pins: 1 CC2_1, 2 VBUS, 3 VDD_1, 4 VDD_2, 5 INT_N, 6 SCL, 7 SDA, 8 GND_1, 9 GND_2, 10 CC1_1, 11 CC1_2, 12 VCONN_1, 13 VCONN_2, 14 CC2_2, 15 N/C

## FUSB340TMX
designator IC?
Integrated Circuit; Manufacturer_Name: onsemi; Manufacturer_Part_Number: FUSB340TMX; Datasheet Link: https://www.onsemi.com/download/data-sheet/pdf/fusb340-d.pdf; Mouser Part Number: 512-FUSB340TMX; Mouser Price/Stock: https://www.mouser.co.uk/ProductDetail/onsemi-Fairchild/FUSB340TMX?qs=4SZXFaw57snYIE5PrFVjhA%3D%3D; Arrow Part Number: FUSB340TMX; Arrow Price/Stock: https://www.arrow.com/en/products/fusb340tmx/on-semiconductor?region=nac
footprint FUSB340TMX
pins: 1 SSTXCOM-, 2 SSTXCOM+, 3 GND_1, 4 SSRXCOM-, 5 SSRXCOM+, 6 S, 7 ~{OE}, 8 SSRX2+, 9 SSRX2-, 10 SSRX1+, 11 SSRX1-, 12 GND_2, 13 SSTX2+, 14 SSTX2-, 15 SSTX1+, 16 SSTX1-, 17 VDD, 18 GND_3, 19 EP

## HD1750FX
designator Q?
Transistor BJT NPN; Manufacturer_Name: STMicroelectronics; Manufacturer_Part_Number: HD1750FX; Datasheet Link: https://g.componentsearchengine.com/Datasheets/1/HD1750FX.pdf; Height: 5.7mm; Mouser Part Number: 511-HD1750FX; Mouser Price/Stock: https://www.mouser.co.uk/ProductDetail/STMicroelectronics/HD1750FX?qs=ahrryRM2ahu7IbJ2odcA4g%3D%3D; Arrow Part Number: HD1750FX; Arrow Price/Stock: https://www.arrow.com/en/products/hd1750fx/stmicroelectronics
footprint TO545P570X1550X3140-3P
pins: 1 B, 2 C, 3 E

## ICM-20602
designator IC?
Integrated Circuit; Manufacturer_Name: TDK; Manufacturer_Part_Number: ICM-20602; Datasheet Link: https://3cfeqx1hf82y3xcoull08ihx-wpengine.netdna-ssl.com/wp-content/uploads/2021/03/DS-000135-ICG-20660-TYP-v1.2.pdf; Mouser Part Number: 410-ICM-20602; Mouser Price/Stock: https://www.mouser.co.uk/ProductDetail/TDK-InvenSense/ICM-20602?qs=u4fy%2FsgLU9NtDChFbqTxBA%3D%3D; Arrow Part Number: ICM-20602; Arrow Price/Stock: https://www.arrow.com/en/products/icm-20602/invensense?utm_currency=USD&region=nac
footprint IAM20680HP
pins: 1 VDDIO, 2 SCL/SPC, 3 SDA/SDI, 4 SA0/SDO, 5 CS, 6 INT, 7 RESV_1, 8 FSYNC, 9 RESV_2, 10 RESV_3, 11 RESV_4, 12 RESV_5, 13 GND, 14 REGOUT, 15 RESV_6, 16 VDD

## ICM-42688-P
designator IC?
Integrated Circuit; Manufacturer_Name: TDK; Manufacturer_Part_Number: ICM-42688-P; Datasheet Link: https://3cfeqx1hf82y3xcoull08ihx-wpengine.netdna-ssl.com/wp-content/uploads/2021/06/DS-000347-ICM-42688-P-v1.5.pdf; Mouser Part Number: 410-ICM-42688-P; Mouser Price/Stock: https://www.mouser.co.uk/ProductDetail/TDK-InvenSense/ICM-42688-P?qs=OlC7AqGiEDk8QrNAV728zw%3D%3D; Arrow Part Number: ICM-42688-P; Arrow Price/Stock: https://www.arrow.com/en/products/icm-42688-p/invensense?utm_currency=USD&region=nac
footprint IIM42352
pins: 1 SDO, 2 RESV_1, 3 RESV_2, 4 INT1, 5 VDDIO, 6 GND, 7 RESV_3, 8 VDD, 9 FSYNC, 10 RESV_4, 11 RESV_5, 12 CS, 13 SCKL, 14 SDI

## L4CA0612LR010FNR
designator R?
Resistor; Manufacturer_Name: LITTELFUSE; Manufacturer_Part_Number: L4CA0612LR010FNR; Datasheet Link: https://www.littelfuse.com/media?resourcetype=datasheets&itemid=db674d7b-aa25-4173-816a-92297475a59f&filename=littelfuse-resistor-l4ca-c-datasheet; Height: 0.7mm
footprint L4CA0612L0M50FNR
pins: 1, 2, 3, 4
text: V; I

## LMR33640ADDAR
designator IC?
Integrated Circuit; Manufacturer_Name: Texas Instruments; Manufacturer_Part_Number: LMR33640ADDAR; Datasheet Link: https://www.ti.com/lit/gpn/LMR33640; Height: 1.7mm; Arrow Part Number: LMR33640ADDAR; Arrow Price/Stock: https://www.arrow.com/en/products/lmr33640addar/texas-instruments
footprint SOIC127P600X170-9N
pins: 1 PGND, 2 VIN, 3 EN, 4 PG, 5 FB (power), 6 VCC, 7 BOOT, 8 SW (power), 9 EP

## LQG15HS27NJ02
designator L?
Inductor; Manufacturer_Name: Murata Electronics; Manufacturer_Part_Number: LQG15HS27NJ02; Datasheet Link: https://www.murata.com/en-us/api/pdfdownloadapi?cate=cgInductors&partno=LQG15HS27NJ02%23; Height: 0.55mm; Mouser Part Number: N/A; Mouser Price/Stock: https://www.mouser.co.uk/ProductDetail/Murata-Electronics/LQG15HS27NJ02?qs=%2F7R%2FnUXKGogCrW2oMO4YtQ%3D%3D; Arrow Part Number: LQG15HS27NJ02; Arrow Price/Stock: https://www.arrow.com/en/products/lqg15hs27nj02/murata-manufacturing
footprint INDC1005X55N
pins: 1, 2

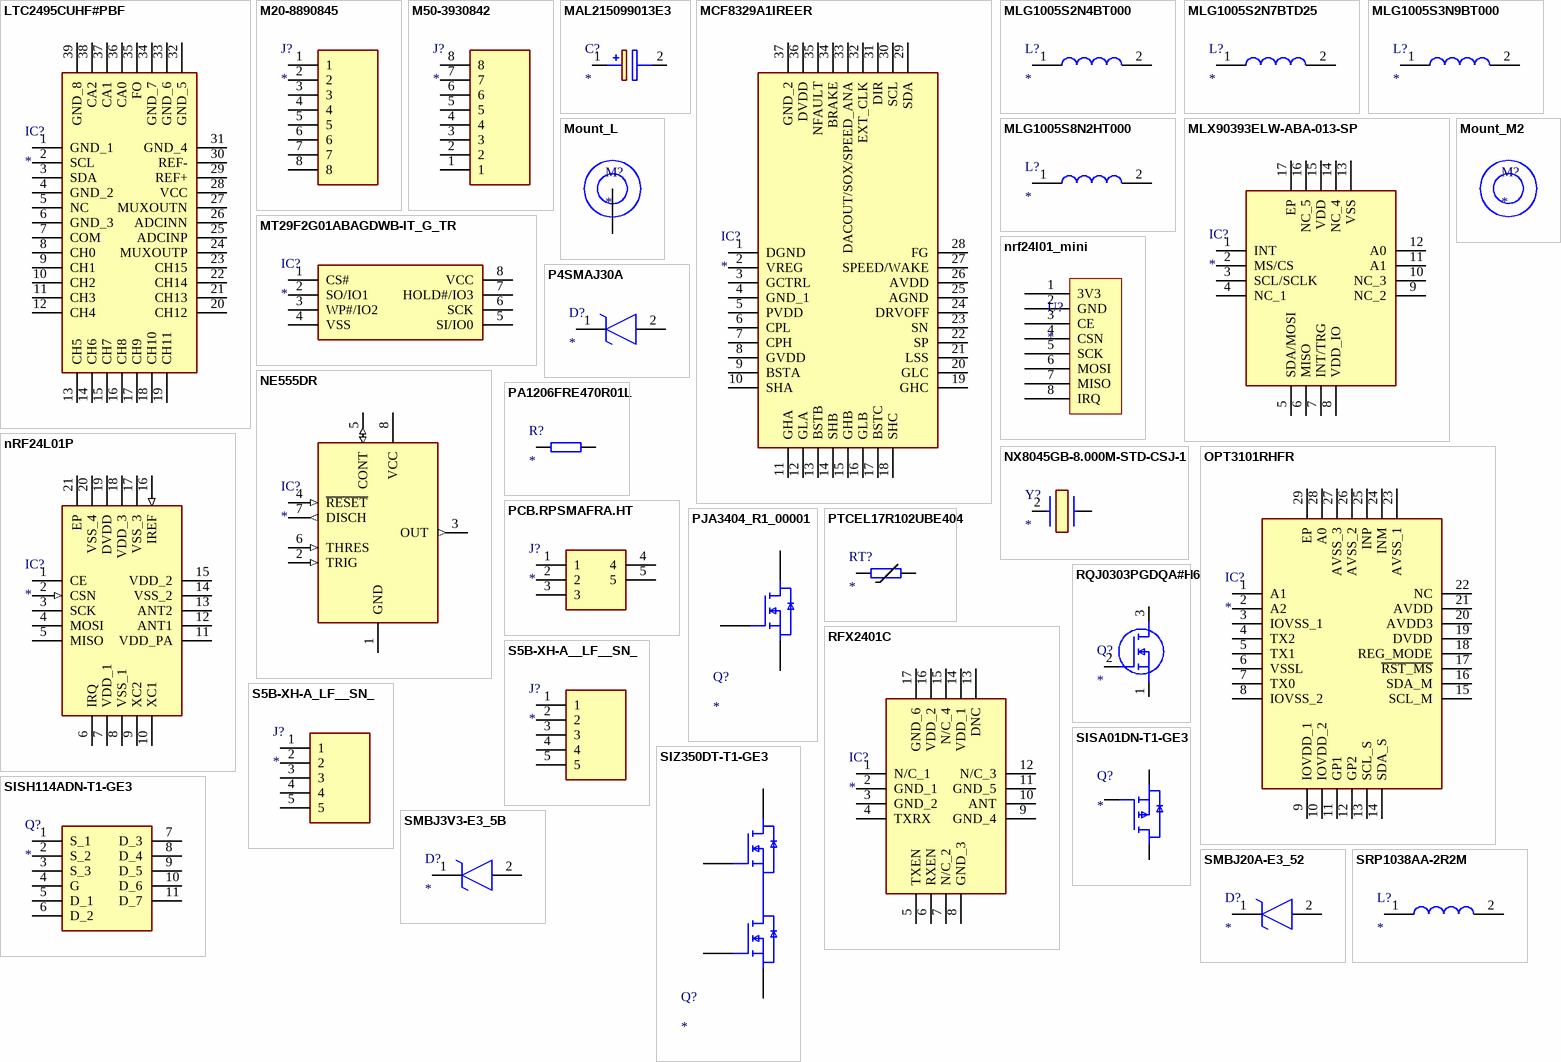
[diagram p2: symbols LTC2495CUHF#PBF to SRP1038AA-2R2M]

## LTC2495CUHF#PBF
designator IC?
Integrated Circuit; Manufacturer_Name: Analog Devices; Manufacturer_Part_Number: LTC2495CUHF#PBF; Datasheet Link: https://www.analog.com/media/en/technical-documentation/data-sheets/2495fe.pdf; Height: 0.8mm; Mouser Part Number: 584-LTC2495CUHF#PBF; Mouser Price/Stock: https://www.mouser.co.uk/ProductDetail/Analog-Devices/LTC2495CUHFPBF?qs=hVkxg5c3xu%252Bd9nHQ1gaMcw%3D%3D; Arrow Part Number: LTC2495CUHF#PBF; Arrow Price/Stock: https://www.arrow.com/en/products/ltc2495cuhfpbf/analog-devices?region=europe
footprint QFN50P500X700X80-39N-D
pins: 1 GND_1, 2 SCL, 3 SDA, 4 GND_2, 5 NC, 6 GND_3, 7 COM, 8 CH0, 9 CH1, 10 CH2, 11 CH3, 12 CH4, 13 CH5, 14 CH6, 15 CH7, 16 CH8, 17 CH9, 18 CH10, 19 CH11, 20 CH12, 21 CH13, 22 CH14, 23 CH15, 24 MUXOUTP, 25 ADCINP, 26 ADCINN, 27 MUXOUTN, 28 VCC, 29 REF+, 30 REF-, 31 GND_4, 32 GND_5, 33 GND_6, 34 GND_7, 35 FO, 36 CA0, 37 CA1, 38 CA2, 39 GND_8

## M20-8890845
designator J?
Connector; Manufacturer_Name: Harwin; Manufacturer_Part_Number: M20-8890845; Datasheet Link: https://cdn.harwin.com/pdfs/M20-889.pdf; Mouser Part Number: 855-M20-8890845; Mouser Price/Stock: https://www.mouser.co.uk/ProductDetail/Harwin/M20-8890845?qs=k41KVqW3ymqbj55BP%2FIx8Q%3D%3D
footprint M208890845
pins: 1, 2, 3, 4, 5, 6, 7, 8

## M50-3930842
designator J?
Connector; Manufacturer_Name: Harwin; Manufacturer_Part_Number: M50-3930842; Datasheet Link: https://cdn.harwin.com/pdfs/M50-393.pdf; Height: 2.3mm; Mouser Part Number: 855-M50-3930842; Mouser Price/Stock: https://www.mouser.co.uk/ProductDetail/Harwin/M50-3930842?qs=%252BdQmOuGyFcF5y3Hg2s%2Fn0Q%3D%3D
footprint M503930842
pins: 1, 2, 3, 4, 5, 6, 7, 8

## MAL215099013E3
designator C?
Capacitor Polarised; Manufacturer_Name: Vishay; Manufacturer_Part_Number: MAL215099013E3; Datasheet Link: https://www.vishay.com/docs/28395/150crz.pdf; Height: 16.5mm; Mouser Part Number: 594-MAL215099013E3; Mouser Price/Stock: https://www.mouser.co.uk/ProductDetail/Vishay-BC-Components/MAL215099013E3?qs=Ep9Lwju7gVp%2FNL2OTQ1FWQ%3D%3D; Arrow Part Number: MAL215099013E3; Arrow Price/Stock: https://www.arrow.com/en/products/mal215099013e3/vishay
footprint CAPAE1290X1650N
pins: 1 +, 2 -

## MCF8329A1IREER
designator IC?
Integrated Circuit; Manufacturer_Name: Texas Instruments; Manufacturer_Part_Number: MCF8329A1IREER; Datasheet Link: https://www.ti.com/lit/gpn/mcf8329a; Height: 0.8mm; Mouser Part Number: 595-MCF8329A1IREER; Mouser Price/Stock: https://www.mouser.co.uk/ProductDetail/Texas-Instruments/MCF8329A1IREER?qs=mELouGlnn3ewGjq5tsDm5w%3D%3D; Arrow Part Number: MCF8329A1IREER; Arrow Price/Stock: https://www.arrow.com/en/products/mcf8329a1ireer/texas-instruments?utm_currency=USD&region=nac
footprint QFN40P400X500X80-37N-D
pins: 1 DGND, 2 VREG, 3 GCTRL, 4 GND_1, 5 PVDD, 6 CPL, 7 CPH, 8 GVDD, 9 BSTA, 10 SHA, 11 GHA, 12 GLA, 13 BSTB, 14 SHB, 15 GHB, 16 GLB, 17 BSTC, 18 SHC, 19 GHC, 20 GLC, 21 LSS, 22 SP, 23 SN, 24 DRVOFF, 25 AGND, 26 AVDD, 27 SPEED/WAKE, 28 FG, 29 SDA, 30 SCL, 31 DIR, 32 EXT_CLK, 33 DACOUT/SOX/SPEED_ANA, 34 BRAKE, 35 NFAULT, 36 DVDD, 37 GND_2

## MLG1005S2N4BT000
designator L?
Inductor; Manufacturer_Name: TDK; Manufacturer_Part_Number: MLG1005S2N4BT000; Datasheet Link: https://product.tdk.com/system/files/dam/doc/product/inductor/inductor/smd/catalog/inductor_commercial_high-frequency_mlg1005s_en.pdf; Arrow Part Number: MLG1005S2N4BT000; Arrow Price/Stock: https://www.arrow.com/en/products/mlg1005s2n4bt000/tdk
footprint MLG1005
pins: 1, 2

## MLG1005S2N7BTD25
designator L?
Inductor; Manufacturer_Name: TDK; Manufacturer_Part_Number: MLG1005S2N7BTD25; Datasheet Link: https://product.tdk.com/system/files/dam/doc/product/inductor/inductor/smd/catalog/inductor_automotive_high-frequency_mlg1005s_en.pdf
footprint MLG1005
pins: 1, 2

## MLG1005S3N9BT000
designator L?
Inductor; Manufacturer_Name: TDK; Manufacturer_Part_Number: MLG1005S3N9BT000; Datasheet Link: https://product.tdk.com/system/files/dam/doc/product/inductor/inductor/smd/catalog/inductor_commercial_high-frequency_mlg1005s_en.pdf; Arrow Part Number: MLG1005S3N9BT000; Arrow Price/Stock: https://www.arrow.com/en/products/mlg1005s3n9bt000/tdk
footprint MLG1005
pins: 1, 2

## MLG1005S8N2HT000
designator L?
Inductor; Manufacturer_Name: TDK; Manufacturer_Part_Number: MLG1005S8N2HT000; Datasheet Link: https://product.tdk.com/system/files/dam/doc/product/inductor/inductor/smd/catalog/inductor_commercial_high-frequency_mlg1005s_en.pdf
footprint MLG1005
pins: 1, 2

## MLX90393ELW-ABA-013-SP
designator IC?
Integrated Circuit; Manufacturer_Name: Melexis; Manufacturer_Part_Number: MLX90393ELW-ABA-013-SP; Datasheet Link: https://www.melexis.com/-/media/files/documents/datasheets/mlx90393-datasheet-melexis.pdf; Height: 1mm; Mouser Part Number: 482-90393ELWABA013SP; Mouser Price/Stock: https://www.mouser.co.uk/ProductDetail/Melexis/MLX90393ELW-ABA-013-SP?qs=4pzlT8jjbhe5W8hWOSw65g%3D%3D; Arrow Part Number: MLX90393ELW-ABA-013-SP; Arrow Price/Stock: https://www.arrow.com/en/products/mlx90393elw-aba-013-sp/melexis?utm_currency=USD&region=nac
footprint QFN50P300X300X100-17N-D
pins: 1 INT, 2 MS/CS, 3 SCL/SCLK, 4 NC_1, 5 SDA/MOSI, 6 MISO, 7 INT/TRG, 8 VDD_IO, 9 NC_2, 10 NC_3, 11 A1, 12 A0, 13 VSS, 14 NC_4, 15 VDD, 16 NC_5, 17 EP

## Mount_L
designator M?
footprint Mount_L_top
footprint Mount_L_bottom
pins: 1

## Mount_M2
designator M?
footprint Mount_M2

## MT29F2G01ABAGDWB-IT_G_TR
designator IC?
Integrated Circuit; Manufacturer_Name: Micron; Manufacturer_Part_Number: MT29F2G01ABAGDWB-IT:G TR; Datasheet Link: https://www.arrow.com/en/products/mt29f2g01abagdwb-itgtr/micron-technology; Height: 0.65mm; Mouser Part Number: 340-319922-REEL; Mouser Price/Stock: https://www.mouser.co.uk/ProductDetail/Micron/MT29F2G01ABAGDWB-ITG-TR?qs=j%252B1pi9TdxUa99FyONPZPSg%3D%3D; Arrow Part Number: MT29F2G01ABAGDWB-IT:G TR; Arrow Price/Stock: https://www.arrow.com/en/products/mt29f2g01abagdwb-itg-tr/micron-technology?region=nac
footprint SON127P800X600X65-8N
pins: 1 CS#, 2 SO/IO1, 3 WP#/IO2, 4 VSS, 5 SI/IO0, 6 SCK, 7 HOLD#/IO3, 8 VCC

## NE555DR
designator IC?
Integrated Circuit; Manufacturer_Name: Texas Instruments; Manufacturer_Part_Number: NE555DR; Datasheet Link: http://www.ti.com/lit/ds/symlink/ne555.pdf; Height: 1.75mm; Mouser Part Number: 595-NE555DR; Mouser Price/Stock: https://www.mouser.com/Search/Refine.aspx?Keyword=595-NE555DR; RS Part Number: 1218414; RS Price/Stock: http://uk.rs-online.com/web/p/products/1218414
footprint SOIC127P600X175-8N
pins: 1 GND (power), 2 TRIG (in), 3 OUT (out), 4 ~{RESET} (in), 5 CONT (io), 6 THRES (in), 7 DISCH (out), 8 VCC (power)

## nrf24l01_mini
designator U?
footprint nr24l01_mini
pins: 1 3V3, 2 GND, 3 CE, 4 CSN, 5 SCK, 6 MOSI, 7 MISO, 8 IRQ

## nRF24L01P
designator IC?
Integrated Circuit; Manufacturer_Name: Nordic Semiconductor; Manufacturer_Part_Number: nRF24L01P; Height: 0.95mm
footprint QFN50P400X400X95-21N-D
pins: 1 CE, 2 CSN (in), 3 SCK, 4 MOSI, 5 MISO, 6 IRQ, 7 VDD_1 (power), 8 VSS_1 (power), 9 XC2, 10 XC1, 11 VDD_PA (power), 12 ANT1, 13 ANT2, 14 VSS_2 (power), 15 VDD_2 (power), 16 IREF (in), 17 VSS_3 (power), 18 VDD_3 (power), 19 DVDD (power), 20 VSS_4 (power), 21 EP

## NX8045GB-8.000M-STD-CSJ-1
designator Y?
Crystal or Oscillator; Manufacturer_Name: NDK; Manufacturer_Part_Number: NX8045GB-8.000M-STD-CSJ-1; Datasheet Link: https://eu.mouser.com/datasheet/2/905/c_NX8045GB-STD-CSJ-1_e-1387309.pdf; Height: 2mm
footprint NX8045GB8000MSTDCSJ1
pins: 2 CRYSTAL_2, ?1

## OPT3101RHFR
designator IC?
Integrated Circuit; Manufacturer_Name: Texas Instruments; Manufacturer_Part_Number: OPT3101RHFR; Datasheet Link: http://www.ti.com/lit/gpn/opt3101; Height: 1mm; Mouser Part Number: 595-OPT3101RHFR; Mouser Price/Stock: https://www.mouser.co.uk/ProductDetail/Texas-Instruments/OPT3101RHFR?qs=gTYE2QTfZfTvqHztJ29%252Bbg%3D%3D; Arrow Part Number: OPT3101RHFR; Arrow Price/Stock: https://www.arrow.com/en/products/opt3101rhfr/texas-instruments?region=nac
footprint QFN50P400X500X100-29N-D
pins: 1 A1, 2 A2, 3 IOVSS_1, 4 TX2, 5 TX1, 6 VSSL, 7 TX0, 8 IOVSS_2, 9 IOVDD_1, 10 IOVDD_2, 11 GP1, 12 GP2, 13 SCL_S, 14 SDA_S, 15 SCL_M, 16 SDA_M, 17 ~{RST_MS}, 18 REG_MODE, 19 DVDD, 20 AVDD3, 21 AVDD, 22 NC, 23 AVSS_1, 24 INM, 25 INP, 26 AVSS_2, 27 AVSS_3, 28 A0, 29 EP

## P4SMAJ30A
designator D?
TVS Diode (Uni-directional); Manufacturer_Name: PANJIT; Manufacturer_Part_Number: P4SMAJ30A; Datasheet Link: https://www.panjit.com.tw/en/Product/downloadPDF/P4SMAJ30A; Height: 2.44mm
footprint DIOM5027X244N
pins: 1 K, 2 A

## PA1206FRE470R01L
designator R?
Resistor; Value: val
footprint RESC3216X65N
pins: 1, 2